# Altium integrated library Maxim Communication Transceiver.IntLib: 302 symbols (part 2 of 7)
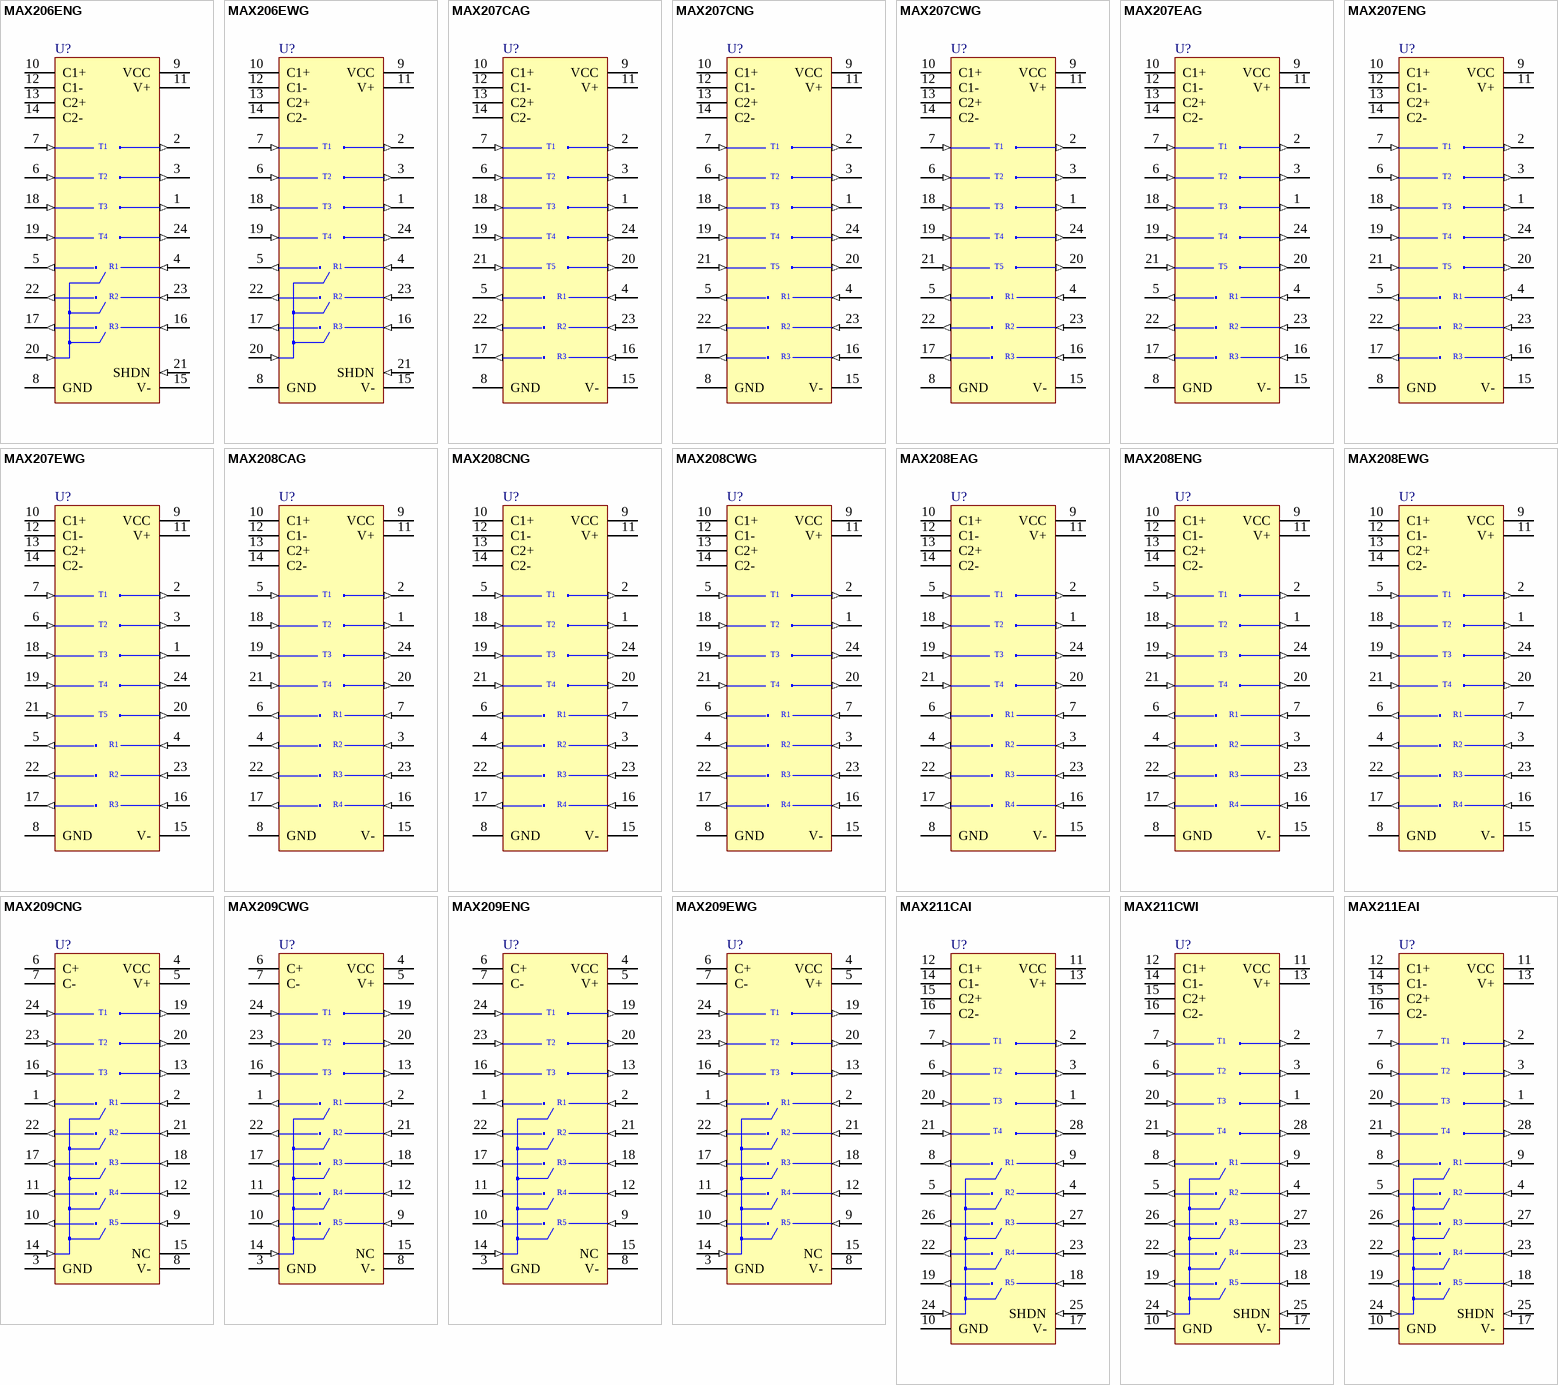
[diagram p13: symbols MAX206ENG to MAX211EAI]

## MAX209EWG
designator U?
+5V RS-232 Transceiver with 0.1µF External Capacitor; Published: 16-Jan-2001; LatestRevisionDate: 13-Apr-2006; LatestRevisionNote: IPC-7351 Footprint Added.; DatasheetVersion: Dec-1996; PackageReference: WSO24; Publisher: Altium Limited; PackageDescription: 24-Pin Small Outline Integrated Circuit 1.27 mm Pitch; ComponentLink1Description: Manufacturer Link; ComponentLink1URL: http://www.maxim-ic.com/; ComponentLink2Description: Datasheet; ComponentLink2URL: http://pdfserv.maxim-ic.com/en/ds/MAX200-MAX213.pdf
footprint WSO24_N (SOIC, 24-Leads, Body 15.4x7.5mm, Pitch 1.27mm, IPC Medium Density)
footprint WSO24_L (SOIC, 24-Leads, Body 15.4x7.5mm, Pitch 1.27mm, IPC High Density)
footprint WSO24_M (SOIC, 24-Leads, Body 15.4x7.5mm, Pitch 1.27mm, IPC Low Density)
3D model WSO24 (24-Pin Small Outline Integrated Circuit 1.27 mm Pitch)
pins: 1 R1OUT (out), 2 R1IN (in), 3 GND (power), 4 VCC (power), 5 V+ (power), 6 C+, 7 C-, 8 V- (power), 9 R5IN (in), 10 R5OUT (out), 11 R4OUT (out), 12 R4IN (in), 13 T3OUT (out), 14 ~{EN} (in), 15 NC, 16 T3IN (in), 17 R3OUT (out), 18 R3IN (in), 19 T1OUT (out), 20 T2OUT (out), 21 R2IN (in), 22 R2OUT (out), 23 T2IN (in), 24 T1IN (in)
text: T1; T2; T3; R1; R2; R3; R4; R5

## MAX211CAI
designator U?
+5V RS-232 Transceiver with 0.1µF External Capacitor; Published: 16-Jan-2001; LatestRevisionDate: 29-May-2009; LatestRevisionNote: IPC-7351 Footprint Added.; DatasheetVersion: Dec-1996; PackageVersion: Jul-2000; PackageReference: SSOP28; Publisher: Altium Limited; PackageDescription: 28-Pin Small Outline Package 0.65 mm Pitch; Code_JEDEC: MO-150-AH; Code_IPC: SOP65P780-28; ComponentLink1Description: Manufacturer Link; ComponentLink1URL: http://www.maxim-ic.com/; ComponentLink2Description: Datasheet; ComponentLink2URL: http://pdfserv.maxim-ic.com/en/ds/MAX200-MAX213.pdf
footprint SSOP28_N (SOP, 28-Leads, Body 10.2x5.3mm, Pitch 0.65mm, IPC Medium Density)
footprint SSOP28_L (SOP, 28-Leads, Body 10.2x5.3mm, Pitch 0.65mm, IPC High Density)
footprint SSOP28_M (SOP, 28-Leads, Body 10.2x5.3mm, Pitch 0.65mm, IPC Low Density)
3D model SSOP28 (28-Pin Small Outline Package 0.65 mm Pitch)
pins: 1 T3OUT (out), 2 T1OUT (out), 3 T2OUT (out), 4 R2IN (in), 5 R2OUT (out), 6 T2IN (in), 7 T1IN (in), 8 R1OUT (out), 9 R1IN (in), 10 GND (power), 11 VCC (power), 12 C1+, 13 V+ (power), 14 C1-, 15 C2+, 16 C2-, 17 V- (power), 18 R5IN (in), 19 R5OUT (out), 20 T3IN (in), 21 T4IN (in), 22 R4OUT (out), 23 R4IN (in), 24 ~{EN} (in), 25 SHDN (in), 26 R3OUT (out), 27 R3IN (in), 28 T4OUT (out)
text: T1; T2; T3; T4; R1; R2; R3; R4; R5

## MAX211CWI
designator U?
+5V RS-232 Transceiver with 0.1µF External Capacitor; Published: 16-Jan-2001; LatestRevisionDate: 13-Apr-2006; LatestRevisionNote: IPC-7351 Footprint Added.; DatasheetVersion: Dec-1996; PackageReference: WSO28; Publisher: Altium Limited; PackageDescription: 28-Pin Small Outline Integrated Circuit 1.27 mm Pitch; ComponentLink1Description: Manufacturer Link; ComponentLink1URL: http://www.maxim-ic.com/; ComponentLink2Description: Datasheet; ComponentLink2URL: http://pdfserv.maxim-ic.com/en/ds/MAX200-MAX213.pdf
footprint WSO28_N (SOIC, 28-Leads, Body 17.9x7.5mm, Pitch 1.27mm, IPC Medium Density)
footprint WSO28_L (SOIC, 28-Leads, Body 17.9x7.5mm, Pitch 1.27mm, IPC High Density)
footprint WSO28_M (SOIC, 28-Leads, Body 17.9x7.5mm, Pitch 1.27mm, IPC Low Density)
3D model WSO28 (28-Pin Small Outline Integrated Circuit 1.27 mm Pitch)
pins: 1 T3OUT (out), 2 T1OUT (out), 3 T2OUT (out), 4 R2IN (in), 5 R2OUT (out), 6 T2IN (in), 7 T1IN (in), 8 R1OUT (out), 9 R1IN (in), 10 GND (power), 11 VCC (power), 12 C1+, 13 V+ (power), 14 C1-, 15 C2+, 16 C2-, 17 V- (power), 18 R5IN (in), 19 R5OUT (out), 20 T3IN (in), 21 T4IN (in), 22 R4OUT (out), 23 R4IN (in), 24 ~{EN} (in), 25 SHDN (in), 26 R3OUT (out), 27 R3IN (in), 28 T4OUT (out)
text: T1; T2; T3; T4; R1; R2; R3; R4; R5

## MAX211EAI
designator U?
+5V RS-232 Transceiver with 0.1µF External Capacitor; Published: 16-Jan-2001; LatestRevisionDate: 29-May-2009; LatestRevisionNote: IPC-7351 Footprint Added.; DatasheetVersion: Dec-1996; PackageVersion: Jul-2000; PackageReference: SSOP28; Publisher: Altium Limited; PackageDescription: 28-Pin Small Outline Package 0.65 mm Pitch; Code_JEDEC: MO-150-AH; Code_IPC: SOP65P780-28; ComponentLink1Description: Manufacturer Link; ComponentLink1URL: http://www.maxim-ic.com/; ComponentLink2Description: Datasheet; ComponentLink2URL: http://pdfserv.maxim-ic.com/en/ds/MAX200-MAX213.pdf
footprint SSOP28_N (SOP, 28-Leads, Body 10.2x5.3mm, Pitch 0.65mm, IPC Medium Density)
footprint SSOP28_L (SOP, 28-Leads, Body 10.2x5.3mm, Pitch 0.65mm, IPC High Density)
footprint SSOP28_M (SOP, 28-Leads, Body 10.2x5.3mm, Pitch 0.65mm, IPC Low Density)
3D model SSOP28 (28-Pin Small Outline Package 0.65 mm Pitch)
pins: 1 T3OUT (out), 2 T1OUT (out), 3 T2OUT (out), 4 R2IN (in), 5 R2OUT (out), 6 T2IN (in), 7 T1IN (in), 8 R1OUT (out), 9 R1IN (in), 10 GND (power), 11 VCC (power), 12 C1+, 13 V+ (power), 14 C1-, 15 C2+, 16 C2-, 17 V- (power), 18 R5IN (in), 19 R5OUT (out), 20 T3IN (in), 21 T4IN (in), 22 R4OUT (out), 23 R4IN (in), 24 ~{EN} (in), 25 SHDN (in), 26 R3OUT (out), 27 R3IN (in), 28 T4OUT (out)
text: T1; T2; T3; T4; R1; R2; R3; R4; R5

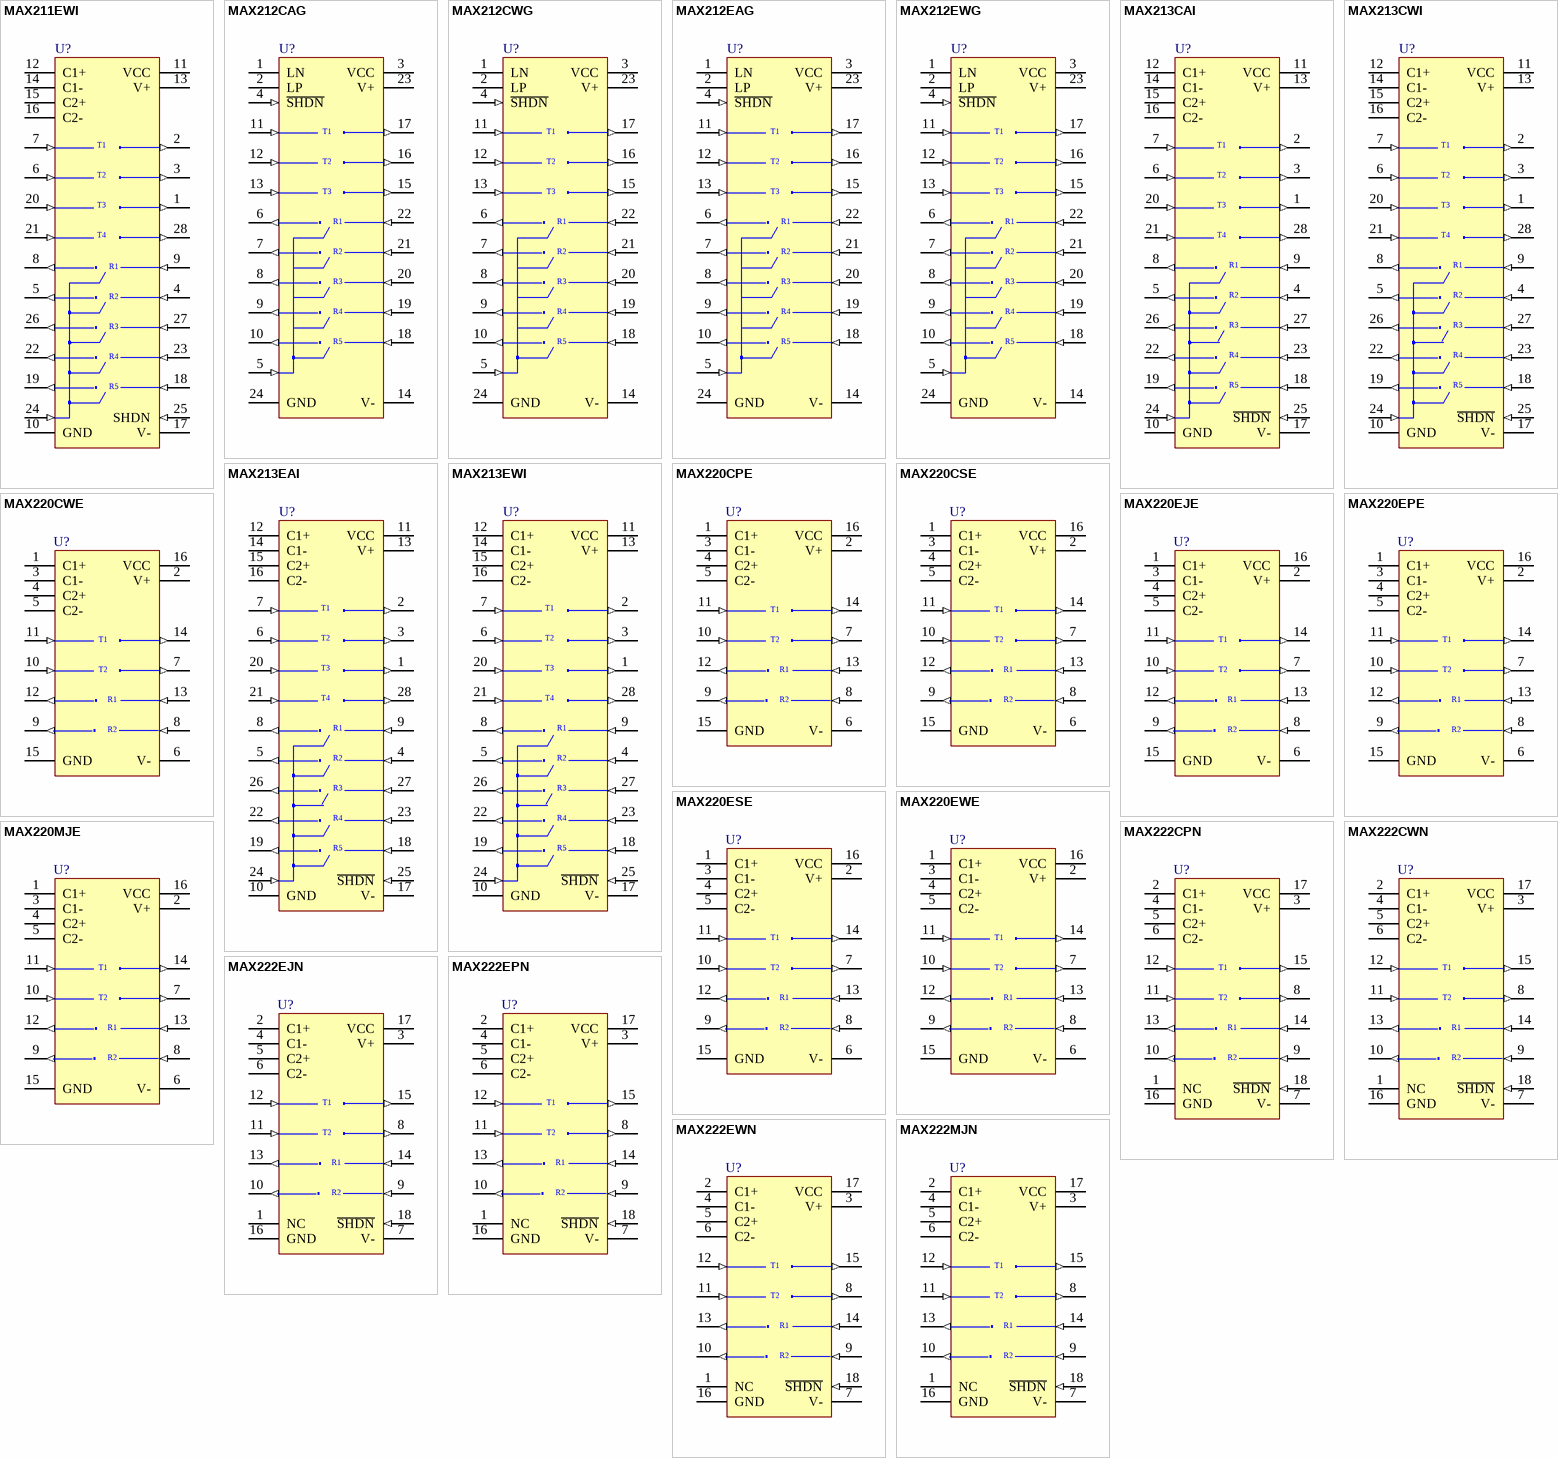
[diagram p2: symbols MAX211EWI to MAX222MJN]

## MAX211EWI
designator U?
+5V RS-232 Transceiver with 0.1µF External Capacitor; Published: 16-Jan-2001; LatestRevisionDate: 13-Apr-2006; LatestRevisionNote: IPC-7351 Footprint Added.; DatasheetVersion: Dec-1996; PackageReference: WSO28; Publisher: Altium Limited; PackageDescription: 28-Pin Small Outline Integrated Circuit 1.27 mm Pitch; ComponentLink1Description: Manufacturer Link; ComponentLink1URL: http://www.maxim-ic.com/; ComponentLink2Description: Datasheet; ComponentLink2URL: http://pdfserv.maxim-ic.com/en/ds/MAX200-MAX213.pdf
footprint WSO28_N (SOIC, 28-Leads, Body 17.9x7.5mm, Pitch 1.27mm, IPC Medium Density)
footprint WSO28_L (SOIC, 28-Leads, Body 17.9x7.5mm, Pitch 1.27mm, IPC High Density)
footprint WSO28_M (SOIC, 28-Leads, Body 17.9x7.5mm, Pitch 1.27mm, IPC Low Density)
3D model WSO28 (28-Pin Small Outline Integrated Circuit 1.27 mm Pitch)
pins: 1 T3OUT (out), 2 T1OUT (out), 3 T2OUT (out), 4 R2IN (in), 5 R2OUT (out), 6 T2IN (in), 7 T1IN (in), 8 R1OUT (out), 9 R1IN (in), 10 GND (power), 11 VCC (power), 12 C1+, 13 V+ (power), 14 C1-, 15 C2+, 16 C2-, 17 V- (power), 18 R5IN (in), 19 R5OUT (out), 20 T3IN (in), 21 T4IN (in), 22 R4OUT (out), 23 R4IN (in), 24 ~{EN} (in), 25 SHDN (in), 26 R3OUT (out), 27 R3IN (in), 28 T4OUT (out)
text: T1; T2; T3; T4; R1; R2; R3; R4; R5

## MAX212CAG
designator U?
+3V-Powered, Low-Power, True RS-232 Transceiver; Published: 16-Jan-2001; LatestRevisionDate: 29-May-2009; LatestRevisionNote: IPC-7351 Footprint Added.; DatasheetVersion: Feb-1994; PackageVersion: 1996; PackageReference: SSOP24; Publisher: Altium Limited; PackageDescription: 24-Pin Small Outline Package 0.65 mm Pitch; Code_JEDEC: MO-150-AG; Code_IPC: SOP65P780-24; ComponentLink1Description: Manufacturer Link; ComponentLink1URL: http://www.maxim-ic.com/; ComponentLink2Description: Datasheet; ComponentLink2URL: http://pdfserv.maxim-ic.com/en/ds/MAX212.pdf
footprint SSOP24_N (SOP, 24-Leads, Body 8.2x5.3mm, Pitch 0.65mm, IPC Medium Density)
footprint SSOP24_L (SOP, 24-Leads, Body 8.2x5.3mm, Pitch 0.65mm, IPC High Density)
footprint SSOP24_M (SOP, 24-Leads, Body 8.2x5.3mm, Pitch 0.65mm, IPC Low Density)
3D model SSOP24 (24-Pin Small Outline Package 0.65 mm Pitch)
pins: 1 LN, 2 LP, 3 VCC (power), 4 ~{SHDN} (in), 5 EN (in), 6 R1OUT (out), 7 R2OUT (out), 8 R3OUT (out), 9 R4OUT (out), 10 R5OUT (out), 11 T1IN (in), 12 T2IN (in), 13 T3IN (in), 14 V- (power), 15 T3OUT (out), 16 T2OUT (out), 17 T1OUT (out), 18 R5IN (in), 19 R4IN (in), 20 R3IN (in), 21 R2IN (in), 22 R1IN (in), 23 V+ (power), 24 GND (power)
text: T1; T2; T3; R1; R2; R3; R4; R5

## MAX212CWG
designator U?
+3V Powered, Low-Power, True RS-232 Transceiver; Published: 16-Jan-2001; LatestRevisionDate: 13-Apr-2006; LatestRevisionNote: IPC-7351 Footprint Added.; DatasheetVersion: Feb-1994; PackageReference: WSO24; Publisher: Altium Limited; PackageDescription: 24-Pin Small Outline Integrated Circuit 1.27 mm Pitch; ComponentLink1Description: Manufacturer Link; ComponentLink1URL: http://www.maxim-ic.com/; ComponentLink2Description: Datasheet; ComponentLink2URL: http://pdfserv.maxim-ic.com/en/ds/MAX212.pdf
footprint WSO24_N (SOIC, 24-Leads, Body 15.4x7.5mm, Pitch 1.27mm, IPC Medium Density)
footprint WSO24_L (SOIC, 24-Leads, Body 15.4x7.5mm, Pitch 1.27mm, IPC High Density)
footprint WSO24_M (SOIC, 24-Leads, Body 15.4x7.5mm, Pitch 1.27mm, IPC Low Density)
3D model WSO24 (24-Pin Small Outline Integrated Circuit 1.27 mm Pitch)
pins: 1 LN, 2 LP, 3 VCC (power), 4 ~{SHDN} (in), 5 EN (in), 6 R1OUT (out), 7 R2OUT (out), 8 R3OUT (out), 9 R4OUT (out), 10 R5OUT (out), 11 T1IN (in), 12 T2IN (in), 13 T3IN (in), 14 V- (power), 15 T3OUT (out), 16 T2OUT (out), 17 T1OUT (out), 18 R5IN (in), 19 R4IN (in), 20 R3IN (in), 21 R2IN (in), 22 R1IN (in), 23 V+ (power), 24 GND (power)
text: T1; T2; T3; R1; R2; R3; R4; R5

## MAX212EAG
designator U?
+3V-Powered, Low-Power, True RS-232 Transceiver; Published: 16-Jan-2001; LatestRevisionDate: 29-May-2009; LatestRevisionNote: IPC-7351 Footprint Added.; DatasheetVersion: Feb-1994; PackageVersion: 1996; PackageReference: SSOP24; Publisher: Altium Limited; PackageDescription: 24-Pin Small Outline Package 0.65 mm Pitch; Code_JEDEC: MO-150-AG; Code_IPC: SOP65P780-24; ComponentLink1Description: Manufacturer Link; ComponentLink1URL: http://www.maxim-ic.com/; ComponentLink2Description: Datasheet; ComponentLink2URL: http://pdfserv.maxim-ic.com/en/ds/MAX212.pdf
footprint SSOP24_N (SOP, 24-Leads, Body 8.2x5.3mm, Pitch 0.65mm, IPC Medium Density)
footprint SSOP24_L (SOP, 24-Leads, Body 8.2x5.3mm, Pitch 0.65mm, IPC High Density)
footprint SSOP24_M (SOP, 24-Leads, Body 8.2x5.3mm, Pitch 0.65mm, IPC Low Density)
3D model SSOP24 (24-Pin Small Outline Package 0.65 mm Pitch)
pins: 1 LN, 2 LP, 3 VCC (power), 4 ~{SHDN} (in), 5 EN (in), 6 R1OUT (out), 7 R2OUT (out), 8 R3OUT (out), 9 R4OUT (out), 10 R5OUT (out), 11 T1IN (in), 12 T2IN (in), 13 T3IN (in), 14 V- (power), 15 T3OUT (out), 16 T2OUT (out), 17 T1OUT (out), 18 R5IN (in), 19 R4IN (in), 20 R3IN (in), 21 R2IN (in), 22 R1IN (in), 23 V+ (power), 24 GND (power)
text: T1; T2; T3; R1; R2; R3; R4; R5

## MAX212EWG
designator U?
+3V-Powered, Low-Power, True RS-232 Transceiver; Published: 16-Jan-2001; LatestRevisionDate: 13-Apr-2006; LatestRevisionNote: IPC-7351 Footprint Added.; DatasheetVersion: Feb-1994; PackageReference: WSO24; Publisher: Altium Limited; PackageDescription: 24-Pin Small Outline Integrated Circuit 1.27 mm Pitch; ComponentLink1Description: Manufacturer Link; ComponentLink1URL: http://www.maxim-ic.com/; ComponentLink2Description: Datasheet; ComponentLink2URL: http://pdfserv.maxim-ic.com/en/ds/MAX212.pdf
footprint WSO24_N (SOIC, 24-Leads, Body 15.4x7.5mm, Pitch 1.27mm, IPC Medium Density)
footprint WSO24_L (SOIC, 24-Leads, Body 15.4x7.5mm, Pitch 1.27mm, IPC High Density)
footprint WSO24_M (SOIC, 24-Leads, Body 15.4x7.5mm, Pitch 1.27mm, IPC Low Density)
3D model WSO24 (24-Pin Small Outline Integrated Circuit 1.27 mm Pitch)
pins: 1 LN, 2 LP, 3 VCC (power), 4 ~{SHDN} (in), 5 EN (in), 6 R1OUT (out), 7 R2OUT (out), 8 R3OUT (out), 9 R4OUT (out), 10 R5OUT (out), 11 T1IN (in), 12 T2IN (in), 13 T3IN (in), 14 V- (power), 15 T3OUT (out), 16 T2OUT (out), 17 T1OUT (out), 18 R5IN (in), 19 R4IN (in), 20 R3IN (in), 21 R2IN (in), 22 R1IN (in), 23 V+ (power), 24 GND (power)
text: T1; T2; T3; R1; R2; R3; R4; R5

## MAX213CAI
designator U?
+5V RS-232 Transceiver with 0.1µF External Capacitor; Note: Pins 18, 19, 22 and 23 are active in SHUTDOWN.; Published: 16-Jan-2001; LatestRevisionDate: 29-May-2009; LatestRevisionNote: IPC-7351 Footprint Added.; DatasheetVersion: Dec-1996; PackageVersion: Jul-2000; PackageReference: SSOP28; Publisher: Altium Limited; PackageDescription: 28-Pin Small Outline Package 0.65 mm Pitch; Code_JEDEC: MO-150-AH; Code_IPC: SOP65P780-28; ComponentLink1Description: Manufacturer Link; ComponentLink1URL: http://www.maxim-ic.com/; ComponentLink2Description: Datasheet; ComponentLink2URL: http://pdfserv.maxim-ic.com/en/ds/MAX200-MAX213.pdf
footprint SSOP28_N (SOP, 28-Leads, Body 10.2x5.3mm, Pitch 0.65mm, IPC Medium Density)
footprint SSOP28_L (SOP, 28-Leads, Body 10.2x5.3mm, Pitch 0.65mm, IPC High Density)
footprint SSOP28_M (SOP, 28-Leads, Body 10.2x5.3mm, Pitch 0.65mm, IPC Low Density)
3D model SSOP28 (28-Pin Small Outline Package 0.65 mm Pitch)
pins: 1 T3OUT (out), 2 T1OUT (out), 3 T2OUT (out), 4 R2IN (in), 5 R2OUT (out), 6 T2IN (in), 7 T1IN (in), 8 R1OUT (out), 9 R1IN (in), 10 GND (power), 11 VCC (power), 12 C1+, 13 V+ (power), 14 C1-, 15 C2+, 16 C2-, 17 V- (power), 18 R5IN (in), 19 R5OUT (out), 20 T3IN (in), 21 T4IN (in), 22 R4OUT (out), 23 R4IN (in), 24 ~{EN} (in), 25 ~{SHDN} (in), 26 R3OUT (out), 27 R3IN (in), 28 T4OUT (out)
text: T1; T2; T3; T4; R1; R2; R3; R4; R5

## MAX213CWI
designator U?
+5V RS-232 Transceiver with 0.1µF External Capacitor; Note: Pins 18, 19, 22 and 23 are active in SHUTDOWN.; Published: 16-Jan-2001; LatestRevisionDate: 13-Apr-2006; LatestRevisionNote: IPC-7351 Footprint Added.; DatasheetVersion: Dec-1996; PackageReference: WSO28; Publisher: Altium Limited; PackageDescription: 28-Pin Small Outline Integrated Circuit 1.27 mm Pitch; ComponentLink1Description: Manufacturer Link; ComponentLink1URL: http://www.maxim-ic.com/; ComponentLink2Description: Datasheet; ComponentLink2URL: http://pdfserv.maxim-ic.com/en/ds/MAX200-MAX213.pdf
footprint WSO28_N (SOIC, 28-Leads, Body 17.9x7.5mm, Pitch 1.27mm, IPC Medium Density)
footprint WSO28_L (SOIC, 28-Leads, Body 17.9x7.5mm, Pitch 1.27mm, IPC High Density)
footprint WSO28_M (SOIC, 28-Leads, Body 17.9x7.5mm, Pitch 1.27mm, IPC Low Density)
3D model WSO28 (28-Pin Small Outline Integrated Circuit 1.27 mm Pitch)
pins: 1 T3OUT (out), 2 T1OUT (out), 3 T2OUT (out), 4 R2IN (in), 5 R2OUT (out), 6 T2IN (in), 7 T1IN (in), 8 R1OUT (out), 9 R1IN (in), 10 GND (power), 11 VCC (power), 12 C1+, 13 V+ (power), 14 C1-, 15 C2+, 16 C2-, 17 V- (power), 18 R5IN (in), 19 R5OUT (out), 20 T3IN (in), 21 T4IN (in), 22 R4OUT (out), 23 R4IN (in), 24 ~{EN} (in), 25 ~{SHDN} (in), 26 R3OUT (out), 27 R3IN (in), 28 T4OUT (out)
text: T1; T2; T3; T4; R1; R2; R3; R4; R5

## MAX213EAI
designator U?
+5V RS-232 Transceiver with 0.1µF External Capacitor; Note: Pins 18, 19, 22 and 23 are active in SHUTDOWN.; Published: 16-Jan-2001; LatestRevisionDate: 29-May-2009; LatestRevisionNote: IPC-7351 Footprint Added.; DatasheetVersion: Dec-1996; PackageVersion: Jul-2000; PackageReference: SSOP28; Publisher: Altium Limited; PackageDescription: 28-Pin Small Outline Package 0.65 mm Pitch; Code_JEDEC: MO-150-AH; Code_IPC: SOP65P780-28; ComponentLink1Description: Manufacturer Link; ComponentLink1URL: http://www.maxim-ic.com/; ComponentLink2Description: Datasheet; ComponentLink2URL: http://pdfserv.maxim-ic.com/en/ds/MAX200-MAX213.pdf
footprint SSOP28_N (SOP, 28-Leads, Body 10.2x5.3mm, Pitch 0.65mm, IPC Medium Density)
footprint SSOP28_L (SOP, 28-Leads, Body 10.2x5.3mm, Pitch 0.65mm, IPC High Density)
footprint SSOP28_M (SOP, 28-Leads, Body 10.2x5.3mm, Pitch 0.65mm, IPC Low Density)
3D model SSOP28 (28-Pin Small Outline Package 0.65 mm Pitch)
pins: 1 T3OUT (out), 2 T1OUT (out), 3 T2OUT (out), 4 R2IN (in), 5 R2OUT (out), 6 T2IN (in), 7 T1IN (in), 8 R1OUT (out), 9 R1IN (in), 10 GND (power), 11 VCC (power), 12 C1+, 13 V+ (power), 14 C1-, 15 C2+, 16 C2-, 17 V- (power), 18 R5IN (in), 19 R5OUT (out), 20 T3IN (in), 21 T4IN (in), 22 R4OUT (out), 23 R4IN (in), 24 ~{EN} (in), 25 ~{SHDN} (in), 26 R3OUT (out), 27 R3IN (in), 28 T4OUT (out)
text: T1; T2; T3; T4; R1; R2; R3; R4; R5

## MAX213EWI
designator U?
+5V RS-232 Transceiver with 0.1µF External Capacitor; Note: Pins 18, 19, 22 and 23 are active in SHUTDOWN.; Published: 16-Jan-2001; LatestRevisionDate: 13-Apr-2006; LatestRevisionNote: IPC-7351 Footprint Added.; DatasheetVersion: Dec-1996; PackageReference: WSO28; Publisher: Altium Limited; PackageDescription: 28-Pin Small Outline Integrated Circuit 1.27 mm Pitch; ComponentLink1Description: Manufacturer Link; ComponentLink1URL: http://www.maxim-ic.com/; ComponentLink2Description: Datasheet; ComponentLink2URL: http://pdfserv.maxim-ic.com/en/ds/MAX200-MAX213.pdf
footprint WSO28_N (SOIC, 28-Leads, Body 17.9x7.5mm, Pitch 1.27mm, IPC Medium Density)
footprint WSO28_L (SOIC, 28-Leads, Body 17.9x7.5mm, Pitch 1.27mm, IPC High Density)
footprint WSO28_M (SOIC, 28-Leads, Body 17.9x7.5mm, Pitch 1.27mm, IPC Low Density)
3D model WSO28 (28-Pin Small Outline Integrated Circuit 1.27 mm Pitch)
pins: 1 T3OUT (out), 2 T1OUT (out), 3 T2OUT (out), 4 R2IN (in), 5 R2OUT (out), 6 T2IN (in), 7 T1IN (in), 8 R1OUT (out), 9 R1IN (in), 10 GND (power), 11 VCC (power), 12 C1+, 13 V+ (power), 14 C1-, 15 C2+, 16 C2-, 17 V- (power), 18 R5IN (in), 19 R5OUT (out), 20 T3IN (in), 21 T4IN (in), 22 R4OUT (out), 23 R4IN (in), 24 ~{EN} (in), 25 ~{SHDN} (in), 26 R3OUT (out), 27 R3IN (in), 28 T4OUT (out)
text: T1; T2; T3; T4; R1; R2; R3; R4; R5

## MAX220CPE
designator U?
+5V-Powered, Multichannel RS-232 Driver/Receiver; Published: 16-Jan-2001; LatestRevisionDate: 29-May-2009; LatestRevisionNote: Component Body Added.; DatasheetVersion: Nov-1997; PackageVersion: Aug-2000; PackageReference: PE16; Publisher: Altium Limited; PackageDescription: DIP, 16-Pin, Row Spacing 7.62 mm, Pitch 2.54 mm; Code_JEDEC: MS-001-BB; ComponentLink1Description: Manufacturer Link; ComponentLink1URL: http://www.maxim-ic.com/; ComponentLink2Description: Datasheet; ComponentLink2URL: http://pdfserv.maxim-ic.com/en/ds/MAX220-MAX249.pdf
footprint PE16 (DIP, 16-Leads, Row Spacing 7.62mm, Pitch 2.54mm, Body 19.18x7.24mm)
3D model PE16 (DIP, 16-Pin, Row Spacing 7.62 mm, Pitch 2.54 mm)
pins: 1 C1+, 2 V+ (power), 3 C1-, 4 C2+, 5 C2-, 6 V- (power), 7 T2OUT (out), 8 R2IN (in), 9 R2OUT (out), 10 T2IN (in), 11 T1IN (in), 12 R1OUT (out), 13 R1IN (in), 14 T1OUT (out), 15 GND (power), 16 VCC (power)
text: T1; T2; R1; R2

## MAX220CSE
designator U?
+5V-Powered, Multichannel RS-232 Driver/Receiver; Published: 16-Jan-2001; LatestRevisionDate: 13-Apr-2006; LatestRevisionNote: IPC-7351 Footprint Added.; DatasheetVersion: Nov-1997; PackageReference: NSO16; Publisher: Altium Limited; PackageDescription: 16-Pin Small Outline Integrated Circuit 1.27 mm Pitch; Code_JEDEC: MS-012-AC; Code_IPC: SOIC127P600-16; ComponentLink1Description: Manufacturer Link; ComponentLink1URL: http://www.maxim-ic.com/; ComponentLink2Description: Datasheet; ComponentLink2URL: http://pdfserv.maxim-ic.com/en/ds/MAX220-MAX249.pdf
footprint NSO16_N (SOIC, 16-Leads, Body 9.9x3.9mm, Pitch 1.27mm, IPC Medium Density)
footprint NSO16_L (SOIC, 16-Leads, Body 9.9x3.9mm, Pitch 1.27mm, IPC High Density)
footprint NSO16_M (SOIC, 16-Leads, Body 9.9x3.9mm, Pitch 1.27mm, IPC Low Density)
3D model NSO16 (16-Pin Small Outline Integrated Circuit 1.27 mm Pitch)
pins: 1 C1+, 2 V+ (power), 3 C1-, 4 C2+, 5 C2-, 6 V- (power), 7 T2OUT (out), 8 R2IN (in), 9 R2OUT (out), 10 T2IN (in), 11 T1IN (in), 12 R1OUT (out), 13 R1IN (in), 14 T1OUT (out), 15 GND (power), 16 VCC (power)
text: T1; T2; R1; R2

## MAX220CWE
designator U?
+5V-Powered, Multichannel RS-232 Driver/Receiver; Published: 16-Jan-2001; LatestRevisionDate: 13-Apr-2006; LatestRevisionNote: IPC-7351 Footprint Added.; DatasheetVersion: Nov-1997; PackageReference: WSO16; Publisher: Altium Limited; PackageDescription: 16-Pin Small Outline Integrated Circuit 1.27 mm Pitch; Code_JEDEC: MS-013-AA; Code_IPC: SOIC127P1030-16; ComponentLink1Description: Manufacturer Link; ComponentLink1URL: http://www.maxim-ic.com/; ComponentLink2Description: Datasheet; ComponentLink2URL: http://pdfserv.maxim-ic.com/en/ds/MAX220-MAX249.pdf
footprint WSO16_N (SOIC, 16-Leads, Body 10.3x7.5mm, Pitch 1.27mm, IPC Medium Density)
footprint WSO16_L (SOIC, 16-Leads, Body 10.3x7.5mm, Pitch 1.27mm, IPC High Density)
footprint WSO16_M (SOIC, 16-Leads, Body 10.3x7.5mm, Pitch 1.27mm, IPC Low Density)
3D model WSO16 (16-Pin Small Outline Integrated Circuit 1.27 mm Pitch)
pins: 1 C1+, 2 V+ (power), 3 C1-, 4 C2+, 5 C2-, 6 V- (power), 7 T2OUT (out), 8 R2IN (in), 9 R2OUT (out), 10 T2IN (in), 11 T1IN (in), 12 R1OUT (out), 13 R1IN (in), 14 T1OUT (out), 15 GND (power), 16 VCC (power)
text: T1; T2; R1; R2

## MAX220EJE
designator U?
+5V-Powered, Multichannel RS-232 Driver/Receiver; Published: 16-Jan-2001; LatestRevisionDate: 29-May-2009; LatestRevisionNote: Component Body Added.; DatasheetVersion: Nov-1997; PackageVersion: 1996; PackageReference: JE16; Publisher: Altium Limited; PackageDescription: DIP, 16-Pin, Row Spacing 7.62 mm, Pitch 2.54 mm; ComponentLink1Description: Manufacturer Link; ComponentLink1URL: http://www.maxim-ic.com/; ComponentLink2Description: Datasheet; ComponentLink2URL: http://pdfserv.maxim-ic.com/en/ds/MAX220-MAX249.pdf
footprint JE16 (DIP, 16-Leads, Row Spacing 7.62mm, Pitch 2.54mm, Body 20.37x6.73mm)
3D model JE16 (DIP, 16-Pin, Row Spacing 7.62 mm, Pitch 2.54 mm)
pins: 1 C1+, 2 V+ (power), 3 C1-, 4 C2+, 5 C2-, 6 V- (power), 7 T2OUT (out), 8 R2IN (in), 9 R2OUT (out), 10 T2IN (in), 11 T1IN (in), 12 R1OUT (out), 13 R1IN (in), 14 T1OUT (out), 15 GND (power), 16 VCC (power)
text: T1; T2; R1; R2

## MAX220EPE
designator U?
+5V-Powered, Multichannel RS-232 Driver/Receiver; Published: 16-Jan-2001; LatestRevisionDate: 29-May-2009; LatestRevisionNote: Component Body Added.; DatasheetVersion: Nov-1997; PackageVersion: Aug-2000; PackageReference: PE16; Publisher: Altium Limited; PackageDescription: DIP, 16-Pin, Row Spacing 7.62 mm, Pitch 2.54 mm; Code_JEDEC: MS-001-BB; ComponentLink1Description: Manufacturer Link; ComponentLink1URL: http://www.maxim-ic.com/; ComponentLink2Description: Datasheet; ComponentLink2URL: http://pdfserv.maxim-ic.com/en/ds/MAX220-MAX249.pdf
footprint PE16 (DIP, 16-Leads, Row Spacing 7.62mm, Pitch 2.54mm, Body 19.18x7.24mm)
3D model PE16 (DIP, 16-Pin, Row Spacing 7.62 mm, Pitch 2.54 mm)
pins: 1 C1+, 2 V+ (power), 3 C1-, 4 C2+, 5 C2-, 6 V- (power), 7 T2OUT (out), 8 R2IN (in), 9 R2OUT (out), 10 T2IN (in), 11 T1IN (in), 12 R1OUT (out), 13 R1IN (in), 14 T1OUT (out), 15 GND (power), 16 VCC (power)
text: T1; T2; R1; R2

## MAX220ESE
designator U?
+5V-Powered, Multichannel RS-232 Driver/Receiver; Published: 16-Jan-2001; LatestRevisionDate: 13-Apr-2006; LatestRevisionNote: IPC-7351 Footprint Added.; DatasheetVersion: Nov-1997; PackageReference: NSO16; Publisher: Altium Limited; PackageDescription: 16-Pin Small Outline Integrated Circuit 1.27 mm Pitch; Code_JEDEC: MS-012-AC; Code_IPC: SOIC127P600-16; ComponentLink1Description: Manufacturer Link; ComponentLink1URL: http://www.maxim-ic.com/; ComponentLink2Description: Datasheet; ComponentLink2URL: http://pdfserv.maxim-ic.com/en/ds/MAX220-MAX249.pdf
footprint NSO16_N (SOIC, 16-Leads, Body 9.9x3.9mm, Pitch 1.27mm, IPC Medium Density)
footprint NSO16_L (SOIC, 16-Leads, Body 9.9x3.9mm, Pitch 1.27mm, IPC High Density)
footprint NSO16_M (SOIC, 16-Leads, Body 9.9x3.9mm, Pitch 1.27mm, IPC Low Density)
3D model NSO16 (16-Pin Small Outline Integrated Circuit 1.27 mm Pitch)
pins: 1 C1+, 2 V+ (power), 3 C1-, 4 C2+, 5 C2-, 6 V- (power), 7 T2OUT (out), 8 R2IN (in), 9 R2OUT (out), 10 T2IN (in), 11 T1IN (in), 12 R1OUT (out), 13 R1IN (in), 14 T1OUT (out), 15 GND (power), 16 VCC (power)
text: T1; T2; R1; R2

## MAX220EWE
designator U?
+5V-Powered, Multichannel RS-232 Driver/Receiver; Published: 16-Jan-2001; LatestRevisionDate: 13-Apr-2006; LatestRevisionNote: IPC-7351 Footprint Added.; DatasheetVersion: Nov-1997; PackageReference: WSO16; Publisher: Altium Limited; PackageDescription: 16-Pin Small Outline Integrated Circuit 1.27 mm Pitch; Code_JEDEC: MS-013-AA; Code_IPC: SOIC127P1030-16; ComponentLink1Description: Manufacturer Link; ComponentLink1URL: http://www.maxim-ic.com/; ComponentLink2Description: Datasheet; ComponentLink2URL: http://pdfserv.maxim-ic.com/en/ds/MAX220-MAX249.pdf
footprint WSO16_N (SOIC, 16-Leads, Body 10.3x7.5mm, Pitch 1.27mm, IPC Medium Density)
footprint WSO16_L (SOIC, 16-Leads, Body 10.3x7.5mm, Pitch 1.27mm, IPC High Density)
footprint WSO16_M (SOIC, 16-Leads, Body 10.3x7.5mm, Pitch 1.27mm, IPC Low Density)
3D model WSO16 (16-Pin Small Outline Integrated Circuit 1.27 mm Pitch)
pins: 1 C1+, 2 V+ (power), 3 C1-, 4 C2+, 5 C2-, 6 V- (power), 7 T2OUT (out), 8 R2IN (in), 9 R2OUT (out), 10 T2IN (in), 11 T1IN (in), 12 R1OUT (out), 13 R1IN (in), 14 T1OUT (out), 15 GND (power), 16 VCC (power)
text: T1; T2; R1; R2

## MAX220MJE
designator U?
+5V-Powered, Multichannel RS-232 Driver/Receiver; Published: 16-Jan-2001; LatestRevisionDate: 29-May-2009; LatestRevisionNote: Component Body Added.; DatasheetVersion: Nov-1997; PackageVersion: 1996; PackageReference: JE16; Publisher: Altium Limited; PackageDescription: DIP, 16-Pin, Row Spacing 7.62 mm, Pitch 2.54 mm; ComponentLink1Description: Manufacturer Link; ComponentLink1URL: http://www.maxim-ic.com/; ComponentLink2Description: Datasheet; ComponentLink2URL: http://pdfserv.maxim-ic.com/en/ds/MAX220-MAX249.pdf
footprint JE16 (DIP, 16-Leads, Row Spacing 7.62mm, Pitch 2.54mm, Body 20.37x6.73mm)
3D model JE16 (DIP, 16-Pin, Row Spacing 7.62 mm, Pitch 2.54 mm)
pins: 1 C1+, 2 V+ (power), 3 C1-, 4 C2+, 5 C2-, 6 V- (power), 7 T2OUT (out), 8 R2IN (in), 9 R2OUT (out), 10 T2IN (in), 11 T1IN (in), 12 R1OUT (out), 13 R1IN (in), 14 T1OUT (out), 15 GND (power), 16 VCC (power)
text: T1; T2; R1; R2

## MAX222CPN
designator U?
+5V-Powered, Multichannel RS-232 Driver/Receiver; Published: 16-Jan-2001; LatestRevisionDate: 29-May-2009; LatestRevisionNote: Component Body Added.; DatasheetVersion: Nov-1997; PackageVersion: Aug-2000; PackageReference: PN18; Publisher: Altium Limited; PackageDescription: DIP, 18-Pin, Row Spacing 7.62 mm, Pitch 2.54 mm; ComponentLink1Description: Manufacturer Link; ComponentLink1URL: http://www.maxim-ic.com/; ComponentLink2Description: Datasheet; ComponentLink2URL: http://pdfserv.maxim-ic.com/en/ds/MAX220-MAX249.pdf
footprint PN18 (DIP, 18-Leads, Row Spacing 7.62mm, Pitch 2.54mm, Body 22.86x7.24mm)
3D model PN18 (DIP, 18-Pin, Row Spacing 7.62 mm, Pitch 2.54 mm)
pins: 1 NC, 2 C1+, 3 V+ (power), 4 C1-, 5 C2+, 6 C2-, 7 V- (power), 8 T2OUT (out), 9 R2IN (in), 10 R2OUT (out), 11 T2IN (in), 12 T1IN (in), 13 R1OUT (out), 14 R1IN (in), 15 T1OUT (out), 16 GND (power), 17 VCC (power), 18 ~{SHDN} (in)
text: T1; T2; R1; R2

## MAX222CWN
designator U?
+5V-Powered, Multichannel RS-232 Driver/Receiver; Published: 16-Jan-2001; LatestRevisionDate: 13-Apr-2006; LatestRevisionNote: IPC-7351 Footprint Added.; DatasheetVersion: Nov-1997; PackageReference: WSO18; Publisher: Altium Limited; PackageDescription: 18-Pin Small Outline Integrated Circuit 1.27 mm Pitch; Code_JEDEC: MS-013-AB; ComponentLink1Description: Manufacturer Link; ComponentLink1URL: http://www.maxim-ic.com/; ComponentLink2Description: Datasheet; ComponentLink2URL: http://pdfserv.maxim-ic.com/en/ds/MAX220-MAX249.pdf
footprint WSO18_N (SOIC, 18-Leads, Body 11.6x7.5mm, Pitch 1.27mm, IPC Medium Density)
footprint WSO18_L (SOIC, 18-Leads, Body 11.6x7.5mm, Pitch 1.27mm, IPC High Density)
footprint WSO18_M (SOIC, 18-Leads, Body 11.6x7.5mm, Pitch 1.27mm, IPC Low Density)
3D model WSO18 (18-Pin Small Outline Integrated Circuit 1.27 mm Pitch)
pins: 1 NC, 2 C1+, 3 V+ (power), 4 C1-, 5 C2+, 6 C2-, 7 V- (power), 8 T2OUT (out), 9 R2IN (in), 10 R2OUT (out), 11 T2IN (in), 12 T1IN (in), 13 R1OUT (out), 14 R1IN (in), 15 T1OUT (out), 16 GND (power), 17 VCC (power), 18 ~{SHDN} (in)
text: T1; T2; R1; R2

## MAX222EJN
designator U?
+5V-Powered, Multichannel RS-232 Driver/Receiver; Published: 16-Jan-2001; LatestRevisionDate: 29-May-2009; LatestRevisionNote: Component Body Added.; DatasheetVersion: Nov-1997; PackageVersion: 1996; PackageReference: JN18; Publisher: Altium Limited; PackageDescription: DIP, 18-Pin, Row Spacing 7.62 mm, Pitch 2.54 mm; ComponentLink1Description: Manufacturer Link; ComponentLink1URL: http://www.maxim-ic.com/; ComponentLink2Description: Datasheet; ComponentLink2URL: http://pdfserv.maxim-ic.com/en/ds/MAX220-MAX249.pdf
footprint JN18 (DIP, 18-Leads, Row Spacing 7.62mm, Pitch 2.54mm, Body 24.13x6.73mm)
3D model JN18 (DIP, 18-Pin, Row Spacing 7.62 mm, Pitch 2.54 mm)
pins: 1 NC, 2 C1+, 3 V+ (power), 4 C1-, 5 C2+, 6 C2-, 7 V- (power), 8 T2OUT (out), 9 R2IN (in), 10 R2OUT (out), 11 T2IN (in), 12 T1IN (in), 13 R1OUT (out), 14 R1IN (in), 15 T1OUT (out), 16 GND (power), 17 VCC (power), 18 ~{SHDN} (in)
text: T1; T2; R1; R2

## MAX222EPN
designator U?
+5V-Powered, Multichannel RS-232 Driver/Receiver; Published: 16-Jan-2001; LatestRevisionDate: 29-May-2009; LatestRevisionNote: Component Body Added.; DatasheetVersion: Nov-1997; PackageVersion: Aug-2000; PackageReference: PN18; Publisher: Altium Limited; PackageDescription: DIP, 18-Pin, Row Spacing 7.62 mm, Pitch 2.54 mm; ComponentLink1Description: Manufacturer Link; ComponentLink1URL: http://www.maxim-ic.com/; ComponentLink2Description: Datasheet; ComponentLink2URL: http://pdfserv.maxim-ic.com/en/ds/MAX220-MAX249.pdf
footprint PN18 (DIP, 18-Leads, Row Spacing 7.62mm, Pitch 2.54mm, Body 22.86x7.24mm)
3D model PN18 (DIP, 18-Pin, Row Spacing 7.62 mm, Pitch 2.54 mm)
pins: 1 NC, 2 C1+, 3 V+ (power), 4 C1-, 5 C2+, 6 C2-, 7 V- (power), 8 T2OUT (out), 9 R2IN (in), 10 R2OUT (out), 11 T2IN (in), 12 T1IN (in), 13 R1OUT (out), 14 R1IN (in), 15 T1OUT (out), 16 GND (power), 17 VCC (power), 18 ~{SHDN} (in)
text: T1; T2; R1; R2

## MAX222EWN
designator U?
+5V-Powered, Multichannel RS-232 Driver/Receiver; Published: 16-Jan-2001; LatestRevisionDate: 13-Apr-2006; LatestRevisionNote: IPC-7351 Footprint Added.; DatasheetVersion: Nov-1997; PackageReference: WSO18; Publisher: Altium Limited; PackageDescription: 18-Pin Small Outline Integrated Circuit 1.27 mm Pitch; Code_JEDEC: MS-013-AB; ComponentLink1Description: Manufacturer Link; ComponentLink1URL: http://www.maxim-ic.com/; ComponentLink2Description: Datasheet; ComponentLink2URL: http://pdfserv.maxim-ic.com/en/ds/MAX220-MAX249.pdf
footprint WSO18_N (SOIC, 18-Leads, Body 11.6x7.5mm, Pitch 1.27mm, IPC Medium Density)
footprint WSO18_L (SOIC, 18-Leads, Body 11.6x7.5mm, Pitch 1.27mm, IPC High Density)
footprint WSO18_M (SOIC, 18-Leads, Body 11.6x7.5mm, Pitch 1.27mm, IPC Low Density)
3D model WSO18 (18-Pin Small Outline Integrated Circuit 1.27 mm Pitch)
pins: 1 NC, 2 C1+, 3 V+ (power), 4 C1-, 5 C2+, 6 C2-, 7 V- (power), 8 T2OUT (out), 9 R2IN (in), 10 R2OUT (out), 11 T2IN (in), 12 T1IN (in), 13 R1OUT (out), 14 R1IN (in), 15 T1OUT (out), 16 GND (power), 17 VCC (power), 18 ~{SHDN} (in)
text: T1; T2; R1; R2

## MAX222MJN
designator U?
+5V-Powered, Multichannel RS-232 Driver/Receiver; Published: 16-Jan-2001; LatestRevisionDate: 29-May-2009; LatestRevisionNote: Component Body Added.; DatasheetVersion: Nov-1997; PackageVersion: 1996; PackageReference: JN18; Publisher: Altium Limited; PackageDescription: DIP, 18-Pin, Row Spacing 7.62 mm, Pitch 2.54 mm; ComponentLink1Description: Manufacturer Link; ComponentLink1URL: http://www.maxim-ic.com/; ComponentLink2Description: Datasheet; ComponentLink2URL: http://pdfserv.maxim-ic.com/en/ds/MAX220-MAX249.pdf
footprint JN18 (DIP, 18-Leads, Row Spacing 7.62mm, Pitch 2.54mm, Body 24.13x6.73mm)
3D model JN18 (DIP, 18-Pin, Row Spacing 7.62 mm, Pitch 2.54 mm)
pins: 1 NC, 2 C1+, 3 V+ (power), 4 C1-, 5 C2+, 6 C2-, 7 V- (power), 8 T2OUT (out), 9 R2IN (in), 10 R2OUT (out), 11 T2IN (in), 12 T1IN (in), 13 R1OUT (out), 14 R1IN (in), 15 T1OUT (out), 16 GND (power), 17 VCC (power), 18 ~{SHDN} (in)
text: T1; T2; R1; R2

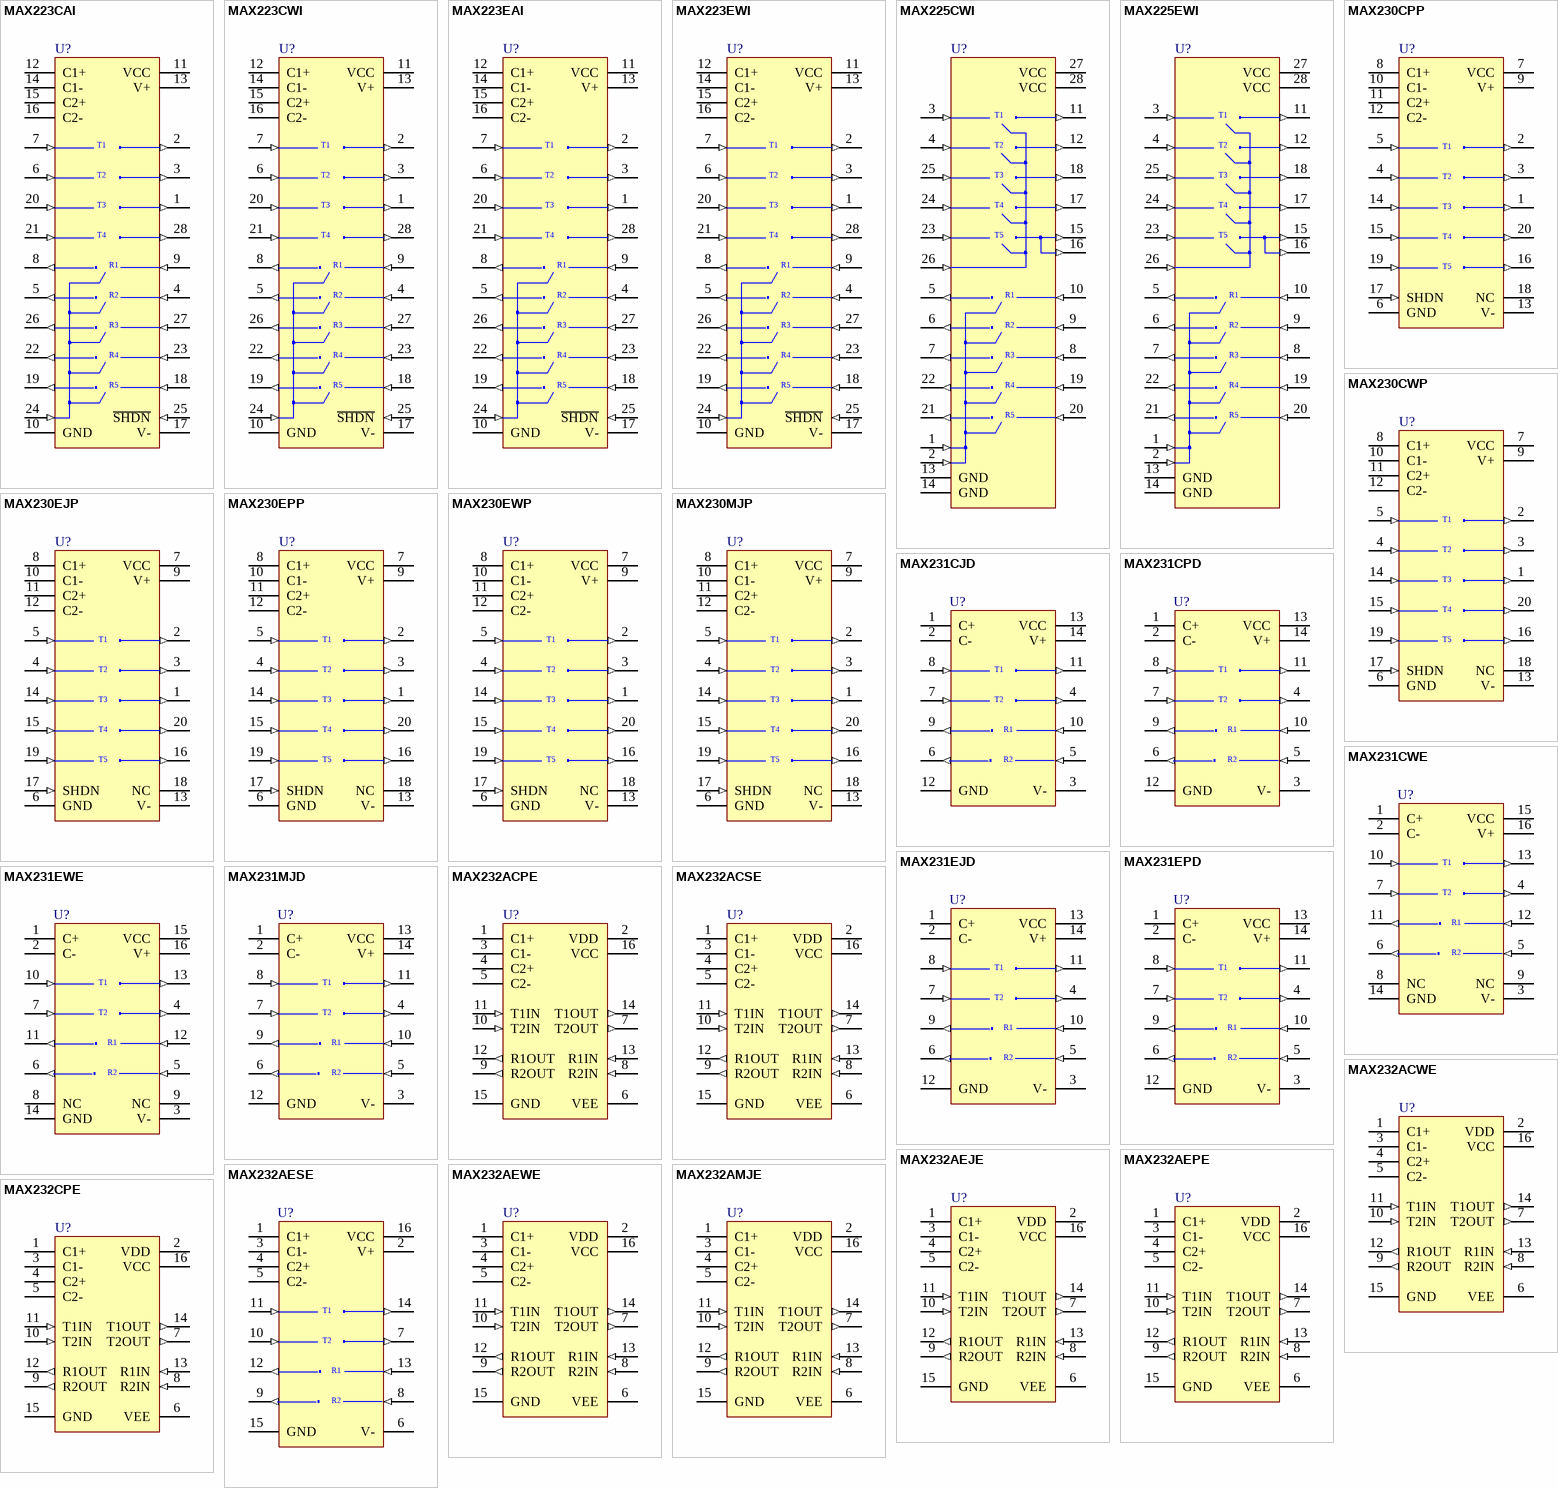
[diagram p3: symbols MAX223CAI to MAX232CPE]

## MAX223CAI
designator U?
+5V-Powered, Multichannel RS-232 Driver/Receiver; Note: R4 and R5 remain active in SHUTDOWN.; Published: 16-Jan-2001; LatestRevisionDate: 29-May-2009; LatestRevisionNote: IPC-7351 Footprint Added.; DatasheetVersion: Nov-1997; PackageVersion: Jul-2000; PackageReference: SSOP28; Publisher: Altium Limited; PackageDescription: 28-Pin Small Outline Package 0.65 mm Pitch; Code_JEDEC: MO-150-AH; Code_IPC: SOP65P780-28; ComponentLink1Description: Manufacturer Link; ComponentLink1URL: http://www.maxim-ic.com/; ComponentLink2Description: Datasheet; ComponentLink2URL: http://pdfserv.maxim-ic.com/en/ds/MAX220-MAX249.pdf
footprint SSOP28_N (SOP, 28-Leads, Body 10.2x5.3mm, Pitch 0.65mm, IPC Medium Density)
footprint SSOP28_L (SOP, 28-Leads, Body 10.2x5.3mm, Pitch 0.65mm, IPC High Density)
footprint SSOP28_M (SOP, 28-Leads, Body 10.2x5.3mm, Pitch 0.65mm, IPC Low Density)
3D model SSOP28 (28-Pin Small Outline Package 0.65 mm Pitch)
pins: 1 T3OUT (out), 2 T1OUT (out), 3 T2OUT (out), 4 R2IN (in), 5 R2OUT (out), 6 T2IN (in), 7 T1IN (in), 8 R1OUT (out), 9 R1IN (in), 10 GND (power), 11 VCC (power), 12 C1+, 13 V+ (power), 14 C1-, 15 C2+, 16 C2-, 17 V- (power), 18 R5IN (in), 19 R5OUT (out), 20 T3IN (in), 21 T4IN (in), 22 R4OUT (out), 23 R4IN (in), 24 ~{EN} (in), 25 ~{SHDN} (in), 26 R3OUT (out), 27 R3IN (in), 28 T4OUT (out)
text: T1; T2; T3; T4; R1; R2; R3; R4; R5

## MAX223CWI
designator U?
+5V-Powered, Multichannel RS-232 Driver/Receiver; Note: R4 and R5 remain active in SHUTDOWN.; Published: 16-Jan-2001; LatestRevisionDate: 13-Apr-2006; LatestRevisionNote: IPC-7351 Footprint Added.; DatasheetVersion: Nov-1997; PackageReference: WSO28; Publisher: Altium Limited; PackageDescription: 28-Pin Small Outline Integrated Circuit 1.27 mm Pitch; ComponentLink1Description: Manufacturer Link; ComponentLink1URL: http://www.maxim-ic.com/; ComponentLink2Description: Datasheet; ComponentLink2URL: http://pdfserv.maxim-ic.com/en/ds/MAX220-MAX249.pdf
footprint WSO28_N (SOIC, 28-Leads, Body 17.9x7.5mm, Pitch 1.27mm, IPC Medium Density)
footprint WSO28_L (SOIC, 28-Leads, Body 17.9x7.5mm, Pitch 1.27mm, IPC High Density)
footprint WSO28_M (SOIC, 28-Leads, Body 17.9x7.5mm, Pitch 1.27mm, IPC Low Density)
3D model WSO28 (28-Pin Small Outline Integrated Circuit 1.27 mm Pitch)
pins: 1 T3OUT (out), 2 T1OUT (out), 3 T2OUT (out), 4 R2IN (in), 5 R2OUT (out), 6 T2IN (in), 7 T1IN (in), 8 R1OUT (out), 9 R1IN (in), 10 GND (power), 11 VCC (power), 12 C1+, 13 V+ (power), 14 C1-, 15 C2+, 16 C2-, 17 V- (power), 18 R5IN (in), 19 R5OUT (out), 20 T3IN (in), 21 T4IN (in), 22 R4OUT (out), 23 R4IN (in), 24 ~{EN} (in), 25 ~{SHDN} (in), 26 R3OUT (out), 27 R3IN (in), 28 T4OUT (out)
text: T1; T2; T3; T4; R1; R2; R3; R4; R5

## MAX223EAI
designator U?
+5V-Powered, Multichannel RS-232 Driver/Receiver; Note: R4 and R5 remain active in SHUTDOWN.; Published: 16-Jan-2001; LatestRevisionDate: 29-May-2009; LatestRevisionNote: IPC-7351 Footprint Added.; DatasheetVersion: Nov-1997; PackageVersion: Jul-2000; PackageReference: SSOP28; Publisher: Altium Limited; PackageDescription: 28-Pin Small Outline Package 0.65 mm Pitch; Code_JEDEC: MO-150-AH; Code_IPC: SOP65P780-28; ComponentLink1Description: Manufacturer Link; ComponentLink1URL: http://www.maxim-ic.com/; ComponentLink2Description: Datasheet; ComponentLink2URL: http://pdfserv.maxim-ic.com/en/ds/MAX220-MAX249.pdf
footprint SSOP28_N (SOP, 28-Leads, Body 10.2x5.3mm, Pitch 0.65mm, IPC Medium Density)
footprint SSOP28_L (SOP, 28-Leads, Body 10.2x5.3mm, Pitch 0.65mm, IPC High Density)
footprint SSOP28_M (SOP, 28-Leads, Body 10.2x5.3mm, Pitch 0.65mm, IPC Low Density)
3D model SSOP28 (28-Pin Small Outline Package 0.65 mm Pitch)
pins: 1 T3OUT (out), 2 T1OUT (out), 3 T2OUT (out), 4 R2IN (in), 5 R2OUT (out), 6 T2IN (in), 7 T1IN (in), 8 R1OUT (out), 9 R1IN (in), 10 GND (power), 11 VCC (power), 12 C1+, 13 V+ (power), 14 C1-, 15 C2+, 16 C2-, 17 V- (power), 18 R5IN (in), 19 R5OUT (out), 20 T3IN (in), 21 T4IN (in), 22 R4OUT (out), 23 R4IN (in), 24 ~{EN} (in), 25 ~{SHDN} (in), 26 R3OUT (out), 27 R3IN (in), 28 T4OUT (out)
text: T1; T2; T3; T4; R1; R2; R3; R4; R5

## MAX223EWI
designator U?
+5V-Powered, Multichannel RS-232 Driver/Receiver; Note: R4 and R5 remain active in SHUTDOWN.; Published: 16-Jan-2001; LatestRevisionDate: 13-Apr-2006; LatestRevisionNote: IPC-7351 Footprint Added.; DatasheetVersion: Nov-1997; PackageReference: WSO28; Publisher: Altium Limited; PackageDescription: 28-Pin Small Outline Integrated Circuit 1.27 mm Pitch; ComponentLink1Description: Manufacturer Link; ComponentLink1URL: http://www.maxim-ic.com/; ComponentLink2Description: Datasheet; ComponentLink2URL: http://pdfserv.maxim-ic.com/en/ds/MAX220-MAX249.pdf
footprint WSO28_N (SOIC, 28-Leads, Body 17.9x7.5mm, Pitch 1.27mm, IPC Medium Density)
footprint WSO28_L (SOIC, 28-Leads, Body 17.9x7.5mm, Pitch 1.27mm, IPC High Density)
footprint WSO28_M (SOIC, 28-Leads, Body 17.9x7.5mm, Pitch 1.27mm, IPC Low Density)
3D model WSO28 (28-Pin Small Outline Integrated Circuit 1.27 mm Pitch)
pins: 1 T3OUT (out), 2 T1OUT (out), 3 T2OUT (out), 4 R2IN (in), 5 R2OUT (out), 6 T2IN (in), 7 T1IN (in), 8 R1OUT (out), 9 R1IN (in), 10 GND (power), 11 VCC (power), 12 C1+, 13 V+ (power), 14 C1-, 15 C2+, 16 C2-, 17 V- (power), 18 R5IN (in), 19 R5OUT (out), 20 T3IN (in), 21 T4IN (in), 22 R4OUT (out), 23 R4IN (in), 24 ~{EN} (in), 25 ~{SHDN} (in), 26 R3OUT (out), 27 R3IN (in), 28 T4OUT (out)
text: T1; T2; T3; T4; R1; R2; R3; R4; R5

## MAX225CWI
designator U?
+5V-Powered, Multichannel RS-232 Driver/Receiver; Published: 16-Jan-2001; LatestRevisionDate: 13-Apr-2006; LatestRevisionNote: IPC-7351 Footprint Added.; DatasheetVersion: Nov-1997; PackageReference: WSO28; Publisher: Altium Limited; PackageDescription: 28-Pin Small Outline Integrated Circuit 1.27 mm Pitch; ComponentLink1Description: Manufacturer Link; ComponentLink1URL: http://www.maxim-ic.com/; ComponentLink2Description: Datasheet; ComponentLink2URL: http://pdfserv.maxim-ic.com/en/ds/MAX220-MAX249.pdf
footprint WSO28_N (SOIC, 28-Leads, Body 17.9x7.5mm, Pitch 1.27mm, IPC Medium Density)
footprint WSO28_L (SOIC, 28-Leads, Body 17.9x7.5mm, Pitch 1.27mm, IPC High Density)
footprint WSO28_M (SOIC, 28-Leads, Body 17.9x7.5mm, Pitch 1.27mm, IPC Low Density)
3D model WSO28 (28-Pin Small Outline Integrated Circuit 1.27 mm Pitch)
pins: 1 ~{ENR} (in), 2 ~{ENR} (in), 3 T1IN (in), 4 T2IN (in), 5 R1OUT (out), 6 R2OUT (out), 7 R3OUT (out), 8 R3IN (in), 9 R2IN (in), 10 R1IN (in), 11 T1OUT (out), 12 T2OUT (out), 13 GND (power), 14 GND (power), 15 T5OUT (out), 16 T5OUT (out), 17 T4OUT (out), 18 T3OUT (out), 19 R4IN (in), 20 R5IN (in), 21 R5OUT (out), 22 R4OUT (out), 23 T5IN (in), 24 T4IN (in), 25 T3IN (in), 26 ~{ENT} (in), 27 VCC (power), 28 VCC (power)
text: T1; T2; T3; T4; T5; R1; R2; R3; R4; R5

## MAX225EWI
designator U?
+5V-Powered, Multichannel RS-232 Driver/Receiver; Published: 16-Jan-2001; LatestRevisionDate: 13-Apr-2006; LatestRevisionNote: IPC-7351 Footprint Added.; DatasheetVersion: Nov-1997; PackageReference: WSO28; Publisher: Altium Limited; PackageDescription: 28-Pin Small Outline Integrated Circuit 1.27 mm Pitch; ComponentLink1Description: Manufacturer Link; ComponentLink1URL: http://www.maxim-ic.com/; ComponentLink2Description: Datasheet; ComponentLink2URL: http://pdfserv.maxim-ic.com/en/ds/MAX220-MAX249.pdf
footprint WSO28_N (SOIC, 28-Leads, Body 17.9x7.5mm, Pitch 1.27mm, IPC Medium Density)
footprint WSO28_L (SOIC, 28-Leads, Body 17.9x7.5mm, Pitch 1.27mm, IPC High Density)
footprint WSO28_M (SOIC, 28-Leads, Body 17.9x7.5mm, Pitch 1.27mm, IPC Low Density)
3D model WSO28 (28-Pin Small Outline Integrated Circuit 1.27 mm Pitch)
pins: 1 ~{ENR} (in), 2 ~{ENR} (in), 3 T1IN (in), 4 T2IN (in), 5 R1OUT (out), 6 R2OUT (out), 7 R3OUT (out), 8 R3IN (in), 9 R2IN (in), 10 R1IN (in), 11 T1OUT (out), 12 T2OUT (out), 13 GND (power), 14 GND (power), 15 T5OUT (out), 16 T5OUT (out), 17 T4OUT (out), 18 T3OUT (out), 19 R4IN (in), 20 R5IN (in), 21 R5OUT (out), 22 R4OUT (out), 23 T5IN (in), 24 T4IN (in), 25 T3IN (in), 26 ~{ENT} (in), 27 VCC (power), 28 VCC (power)
text: T1; T2; T3; T4; T5; R1; R2; R3; R4; R5

## MAX230CPP
designator U?
+5V-Powered, Multichannel RS-232 Driver/Receiver; Published: 16-Jan-2001; LatestRevisionDate: 29-May-2009; LatestRevisionNote: Component Body Added.; DatasheetVersion: Nov-1997; PackageVersion: RevB, 21-0043; PackageReference: PP20; Publisher: Altium Limited; PackageDescription: DIP, 20-Pin, Row Spacing 7.62 mm, Pitch 2.54 mm; Code_JEDEC: MS-001-AE; ComponentLink1Description: Manufacturer Link; ComponentLink1URL: http://www.maxim-ic.com/; ComponentLink2Description: Datasheet; ComponentLink2URL: http://pdfserv.maxim-ic.com/en/ds/MAX220-MAX249.pdf
footprint PP20 (DIP, 20-Leads, Row Spacing 7.62mm, Pitch 2.54mm, Body 26.16x7.24mm)
3D model PP20 (DIP, 20-Pin, Row Spacing 7.62 mm, Pitch 2.54 mm)
pins: 1 T3OUT (out), 2 T1OUT (out), 3 T2OUT (out), 4 T2IN (in), 5 T1IN (in), 6 GND (power), 7 VCC (power), 8 C1+, 9 V+ (power), 10 C1-, 11 C2+, 12 C2-, 13 V- (power), 14 T3IN (in), 15 T4IN (in), 16 T5OUT (out), 17 SHDN (in), 18 NC, 19 T5IN (in), 20 T4OUT (out)
text: T1; T2; T3; T4; T5

## MAX230CWP
designator U?
+5V-Powered, Multichannel RS-232 Driver/Receiver; Published: 16-Jan-2001; LatestRevisionDate: 13-Apr-2006; LatestRevisionNote: IPC-7351 Footprint Added.; DatasheetVersion: Nov-1997; PackageReference: WSO20; Publisher: Altium Limited; PackageDescription: 20-Pin Small Outline Integrated Circuit 1.27 mm Pitch; Code_JEDEC: MS-013-AC; Code_IPC: SOIC127P1030-20; ComponentLink1Description: Manufacturer Link; ComponentLink1URL: http://www.maxim-ic.com/; ComponentLink2Description: Datasheet; ComponentLink2URL: http://pdfserv.maxim-ic.com/en/ds/MAX220-MAX249.pdf
footprint WSO20_N (SOIC, 20-Leads, Body 12.8x7.5mm, Pitch 1.27mm, IPC Medium Density)
footprint WSO20_L (SOIC, 20-Leads, Body 12.8x7.5mm, Pitch 1.27mm, IPC High Density)
footprint WSO20_M (SOIC, 20-Leads, Body 12.8x7.5mm, Pitch 1.27mm, IPC Low Density)
3D model WSO20 (20-Pin Small Outline Integrated Circuit 1.27 mm Pitch)
pins: 1 T3OUT (out), 2 T1OUT (out), 3 T2OUT (out), 4 T2IN (in), 5 T1IN (in), 6 GND (power), 7 VCC (power), 8 C1+, 9 V+ (power), 10 C1-, 11 C2+, 12 C2-, 13 V- (power), 14 T3IN (in), 15 T4IN (in), 16 T5OUT (out), 17 SHDN (in), 18 NC, 19 T5IN (in), 20 T4OUT (out)
text: T1; T2; T3; T4; T5

## MAX230EJP
designator U?
+5V-Powered, Multichannel RS-232 Driver/Receiver; Published: 16-Jan-2001; LatestRevisionDate: 29-May-2009; LatestRevisionNote: Component Body Added.; DatasheetVersion: Nov-1997; PackageVersion: 1996; PackageReference: JP20; Publisher: Altium Limited; PackageDescription: DIP, 20-Pin, Row Spacing 7.62 mm, Pitch 2.54 mm; Code_JEDEC: MS-001-AD; ComponentLink1Description: Manufacturer Link; ComponentLink1URL: http://www.maxim-ic.com/; ComponentLink2Description: Datasheet; ComponentLink2URL: http://pdfserv.maxim-ic.com/en/ds/MAX220-MAX249.pdf
footprint JP20 (DIP, 20-Leads, Row Spacing 7.62mm, Pitch 2.54mm, Body 25.91x6.73mm)
3D model PP20 (DIP, 20-Pin, Row Spacing 7.62 mm, Pitch 2.54 mm)
pins: 1 T3OUT (out), 2 T1OUT (out), 3 T2OUT (out), 4 T2IN (in), 5 T1IN (in), 6 GND (power), 7 VCC (power), 8 C1+, 9 V+ (power), 10 C1-, 11 C2+, 12 C2-, 13 V- (power), 14 T3IN (in), 15 T4IN (in), 16 T5OUT (out), 17 SHDN (in), 18 NC, 19 T5IN (in), 20 T4OUT (out)
text: T1; T2; T3; T4; T5

## MAX230EPP
designator U?
+5V-Powered, Multichannel RS-232 Driver/Receiver; Published: 16-Jan-2001; LatestRevisionDate: 29-May-2009; LatestRevisionNote: Component Body Added.; DatasheetVersion: Nov-1997; PackageVersion: RevB, 21-0043; PackageReference: PP20; Publisher: Altium Limited; PackageDescription: DIP, 20-Pin, Row Spacing 7.62 mm, Pitch 2.54 mm; Code_JEDEC: MS-001-AE; ComponentLink1Description: Manufacturer Link; ComponentLink1URL: http://www.maxim-ic.com/; ComponentLink2Description: Datasheet; ComponentLink2URL: http://pdfserv.maxim-ic.com/en/ds/MAX220-MAX249.pdf
footprint PP20 (DIP, 20-Leads, Row Spacing 7.62mm, Pitch 2.54mm, Body 26.16x7.24mm)
3D model PP20 (DIP, 20-Pin, Row Spacing 7.62 mm, Pitch 2.54 mm)
pins: 1 T3OUT (out), 2 T1OUT (out), 3 T2OUT (out), 4 T2IN (in), 5 T1IN (in), 6 GND (power), 7 VCC (power), 8 C1+, 9 V+ (power), 10 C1-, 11 C2+, 12 C2-, 13 V- (power), 14 T3IN (in), 15 T4IN (in), 16 T5OUT (out), 17 SHDN (in), 18 NC, 19 T5IN (in), 20 T4OUT (out)
text: T1; T2; T3; T4; T5

## MAX230EWP
designator U?
+5V-Powered, Multichannel RS-232 Driver/Receiver; Published: 16-Jan-2001; LatestRevisionDate: 13-Apr-2006; LatestRevisionNote: IPC-7351 Footprint Added.; DatasheetVersion: Nov-1997; PackageReference: WSO20; Publisher: Altium Limited; PackageDescription: 20-Pin Small Outline Integrated Circuit 1.27 mm Pitch; Code_JEDEC: MS-013-AC; Code_IPC: SOIC127P1030-20; ComponentLink1Description: Manufacturer Link; ComponentLink1URL: http://www.maxim-ic.com/; ComponentLink2Description: Datasheet; ComponentLink2URL: http://pdfserv.maxim-ic.com/en/ds/MAX220-MAX249.pdf
footprint WSO20_N (SOIC, 20-Leads, Body 12.8x7.5mm, Pitch 1.27mm, IPC Medium Density)
footprint WSO20_L (SOIC, 20-Leads, Body 12.8x7.5mm, Pitch 1.27mm, IPC High Density)
footprint WSO20_M (SOIC, 20-Leads, Body 12.8x7.5mm, Pitch 1.27mm, IPC Low Density)
3D model WSO20 (20-Pin Small Outline Integrated Circuit 1.27 mm Pitch)
pins: 1 T3OUT (out), 2 T1OUT (out), 3 T2OUT (out), 4 T2IN (in), 5 T1IN (in), 6 GND (power), 7 VCC (power), 8 C1+, 9 V+ (power), 10 C1-, 11 C2+, 12 C2-, 13 V- (power), 14 T3IN (in), 15 T4IN (in), 16 T5OUT (out), 17 SHDN (in), 18 NC, 19 T5IN (in), 20 T4OUT (out)
text: T1; T2; T3; T4; T5

## MAX230MJP
designator U?
+5V-Powered, Multichannel RS-232 Driver/Receiver; Published: 16-Jan-2001; LatestRevisionDate: 29-May-2009; LatestRevisionNote: Component Body Added.; DatasheetVersion: Nov-1997; PackageVersion: 1996; PackageReference: JP20; Publisher: Altium Limited; PackageDescription: DIP, 20-Pin, Row Spacing 7.62 mm, Pitch 2.54 mm; Code_JEDEC: MS-001-AD; ComponentLink1Description: Manufacturer Link; ComponentLink1URL: http://www.maxim-ic.com/; ComponentLink2Description: Datasheet; ComponentLink2URL: http://pdfserv.maxim-ic.com/en/ds/MAX220-MAX249.pdf
footprint JP20 (DIP, 20-Leads, Row Spacing 7.62mm, Pitch 2.54mm, Body 25.91x6.73mm)
3D model PP20 (DIP, 20-Pin, Row Spacing 7.62 mm, Pitch 2.54 mm)
pins: 1 T3OUT (out), 2 T1OUT (out), 3 T2OUT (out), 4 T2IN (in), 5 T1IN (in), 6 GND (power), 7 VCC (power), 8 C1+, 9 V+ (power), 10 C1-, 11 C2+, 12 C2-, 13 V- (power), 14 T3IN (in), 15 T4IN (in), 16 T5OUT (out), 17 SHDN (in), 18 NC, 19 T5IN (in), 20 T4OUT (out)
text: T1; T2; T3; T4; T5

## MAX231CJD
designator U?
+5V-Powered, Multichannel RS-232 Driver/Receiver; Published: 16-Jan-2001; LatestRevisionDate: 29-May-2009; LatestRevisionNote: Component Body Added.; DatasheetVersion: Nov-1997; PackageVersion: 1996; PackageReference: JD14; Publisher: Altium Limited; PackageDescription: DIP, 14-Pin, Row Spacing 7.62 mm, Pitch 2.54 mm; ComponentLink1Description: Manufacturer Link; ComponentLink1URL: http://www.maxim-ic.com/; ComponentLink2Description: Datasheet; ComponentLink2URL: http://pdfserv.maxim-ic.com/en/ds/MAX220-MAX249.pdf
footprint JD14 (DIP, 14-Leads, Row Spacing 7.62mm, Pitch 2.54mm, Body 19.56x6.73mm)
3D model JD14 (DIP, 14-Pin, Row Spacing 7.62 mm, Pitch 2.54 mm)
pins: 1 C+, 2 C-, 3 V- (power), 4 T2OUT (out), 5 R2IN (in), 6 R2OUT (out), 7 T2IN (in), 8 T1IN (in), 9 R1OUT (out), 10 R1IN (in), 11 T1OUT (out), 12 GND (power), 13 VCC (power), 14 V+ (power)
text: T1; T2; R1; R2

## MAX231CPD
designator U?
+5V-Powered, Multichannel RS-232 Driver/Receiver; Published: 16-Jan-2001; LatestRevisionDate: 29-May-2009; LatestRevisionNote: Component Body Added.; DatasheetVersion: Nov-1997; PackageVersion: RevB, 21-0043; PackageReference: PD14; Publisher: Altium Limited; PackageDescription: DIP, 14-Pin, Row Spacing 7.62 mm, Pitch 2.54 mm; Code_JEDEC: MS-001-AC; ComponentLink1Description: Manufacturer Link; ComponentLink1URL: http://www.maxim-ic.com/; ComponentLink2Description: Datasheet; ComponentLink2URL: http://pdfserv.maxim-ic.com/en/ds/MAX220-MAX249.pdf
footprint PD14 (DIP, 14-Leads, Row Spacing 7.62mm, Pitch 2.54mm, Body 19.05x7.24mm)
3D model PD14 (DIP, 14-Pin, Row Spacing 7.62 mm, Pitch 2.54 mm)
pins: 1 C+, 2 C-, 3 V- (power), 4 T2OUT (out), 5 R2IN (in), 6 R2OUT (out), 7 T2IN (in), 8 T1IN (in), 9 R1OUT (out), 10 R1IN (in), 11 T1OUT (out), 12 GND (power), 13 VCC (power), 14 V+ (power)
text: T1; T2; R1; R2

## MAX231CWE
designator U?
+5V-Powered, Multichannel RS-232 Driver/Receiver; Published: 16-Jan-2001; LatestRevisionDate: 13-Apr-2006; LatestRevisionNote: IPC-7351 Footprint Added.; DatasheetVersion: Nov-1997; PackageReference: WSO16; Publisher: Altium Limited; PackageDescription: 16-Pin Small Outline Integrated Circuit 1.27 mm Pitch; Code_JEDEC: MS-013-AA; Code_IPC: SOIC127P1030-16; ComponentLink1Description: Manufacturer Link; ComponentLink1URL: http://www.maxim-ic.com/; ComponentLink2Description: Datasheet; ComponentLink2URL: http://pdfserv.maxim-ic.com/en/ds/MAX220-MAX249.pdf
footprint WSO16_N (SOIC, 16-Leads, Body 10.3x7.5mm, Pitch 1.27mm, IPC Medium Density)
footprint WSO16_L (SOIC, 16-Leads, Body 10.3x7.5mm, Pitch 1.27mm, IPC High Density)
footprint WSO16_M (SOIC, 16-Leads, Body 10.3x7.5mm, Pitch 1.27mm, IPC Low Density)
3D model WSO16 (16-Pin Small Outline Integrated Circuit 1.27 mm Pitch)
pins: 1 C+, 2 C-, 3 V- (power), 4 T2OUT (out), 5 R2IN (in), 6 R2OUT (out), 7 T2IN (in), 8 NC, 9 NC, 10 T1IN (in), 11 R1OUT (out), 12 R1IN (in), 13 T1OUT (out), 14 GND (power), 15 VCC (power), 16 V+ (power)
text: T1; T2; R1; R2

## MAX231EJD
designator U?
+5V-Powered, Multichannel RS-232 Driver/Receiver; Published: 16-Jan-2001; LatestRevisionDate: 29-May-2009; LatestRevisionNote: Component Body Added.; DatasheetVersion: Nov-1997; PackageVersion: 1996; PackageReference: JD14; Publisher: Altium Limited; PackageDescription: DIP, 14-Pin, Row Spacing 7.62 mm, Pitch 2.54 mm; ComponentLink1Description: Manufacturer Link; ComponentLink1URL: http://www.maxim-ic.com/; ComponentLink2Description: Datasheet; ComponentLink2URL: http://pdfserv.maxim-ic.com/en/ds/MAX220-MAX249.pdf
footprint JD14 (DIP, 14-Leads, Row Spacing 7.62mm, Pitch 2.54mm, Body 19.56x6.73mm)
3D model JD14 (DIP, 14-Pin, Row Spacing 7.62 mm, Pitch 2.54 mm)
pins: 1 C+, 2 C-, 3 V- (power), 4 T2OUT (out), 5 R2IN (in), 6 R2OUT (out), 7 T2IN (in), 8 T1IN (in), 9 R1OUT (out), 10 R1IN (in), 11 T1OUT (out), 12 GND (power), 13 VCC (power), 14 V+ (power)
text: T1; T2; R1; R2

## MAX231EPD
designator U?
+5V-Powered, Multichannel RS-232 Driver/Receiver; Published: 16-Jan-2001; LatestRevisionDate: 29-May-2009; LatestRevisionNote: Component Body Added.; DatasheetVersion: Nov-1997; PackageVersion: RevB, 21-0043; PackageReference: PD14; Publisher: Altium Limited; PackageDescription: DIP, 14-Pin, Row Spacing 7.62 mm, Pitch 2.54 mm; Code_JEDEC: MS-001-AC; ComponentLink1Description: Manufacturer Link; ComponentLink1URL: http://www.maxim-ic.com/; ComponentLink2Description: Datasheet; ComponentLink2URL: http://pdfserv.maxim-ic.com/en/ds/MAX220-MAX249.pdf
footprint PD14 (DIP, 14-Leads, Row Spacing 7.62mm, Pitch 2.54mm, Body 19.05x7.24mm)
3D model PD14 (DIP, 14-Pin, Row Spacing 7.62 mm, Pitch 2.54 mm)
pins: 1 C+, 2 C-, 3 V- (power), 4 T2OUT (out), 5 R2IN (in), 6 R2OUT (out), 7 T2IN (in), 8 T1IN (in), 9 R1OUT (out), 10 R1IN (in), 11 T1OUT (out), 12 GND (power), 13 VCC (power), 14 V+ (power)
text: T1; T2; R1; R2